# EAGLE library part JACK6.3PCB (library Zoli2_2015-02-22)
Jack connectors according to JISC 6560, 3.5 mm Klinkeneinbaukupplung nach JISC 6560, 3,5 mm, 3-polig/ stereo, abgewinkelte Ausführung, mit 2 Öffnern und Lötaugen, für Leiterplatten Rückseitenmontage Source: http://www.lumberg.com/Produkte/PDFs/1503_09.pdf
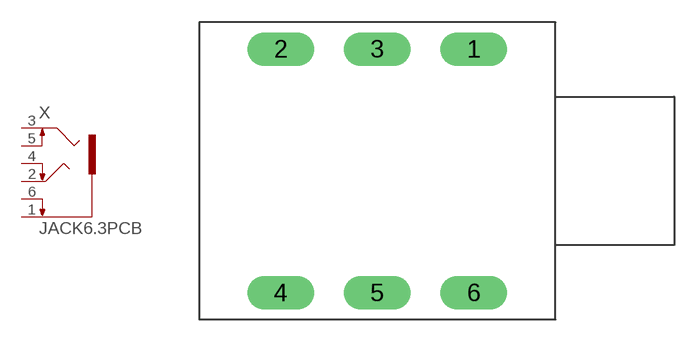
[diagram p36: symbol with the pads of JACK6.3PCB; footprint JACK6.3PCB]

Designator prefix X

## JACK6.3PCBPCB  [JACK6.3PCB]
1  1  pas
2  2  pas
3  3  pas
4  4  pas
5  5  pas
6  6  pas

## Footprint JACK6.3PCB (pad centres in mm)
drill 1.5 long: 1 6.5,8.2; 2 -6.5,8.2; 3 0,8.2; 4 -6.5,-8.2; 5 0,-8.2; 6 6.5,-8.2